# Altium schematic symbol library 1235AS-H-220M=P3.SchLib: 1 symbol
Pins are listed as number, name and electrical type; pins without a type are passive.

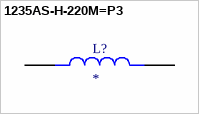
[diagram p0: symbol 1235AS-H-220M=P3]

## 1235AS-H-220M=P3
designator L?
Inductor Power Shielded Wirewound 22uH 20% 100KHz Ferrite 1A 0.306Ohm DCR 1818 T/R; MP: 1235AS-H-220M=P3; Package: None; Price: None; Value: *; Availability: Unavailable
footprint IND_1235AS-H-220M=P3
pins: 1, 2